# Altium footprint library HANDS-FREEE-PcbLib-V1.11.PcbLib: 211 footprints (part 12 of 14)
Each footprint in its own frame and in the unit in brackets; x right, y up, seen from the top. Pads: shape width x height; smd on the part's side, far side on the other; paste and mask are expansions set on the pad; w line width, h text height; cw(c..) or ccw(c..) is an arc to the next point about the centre after c.
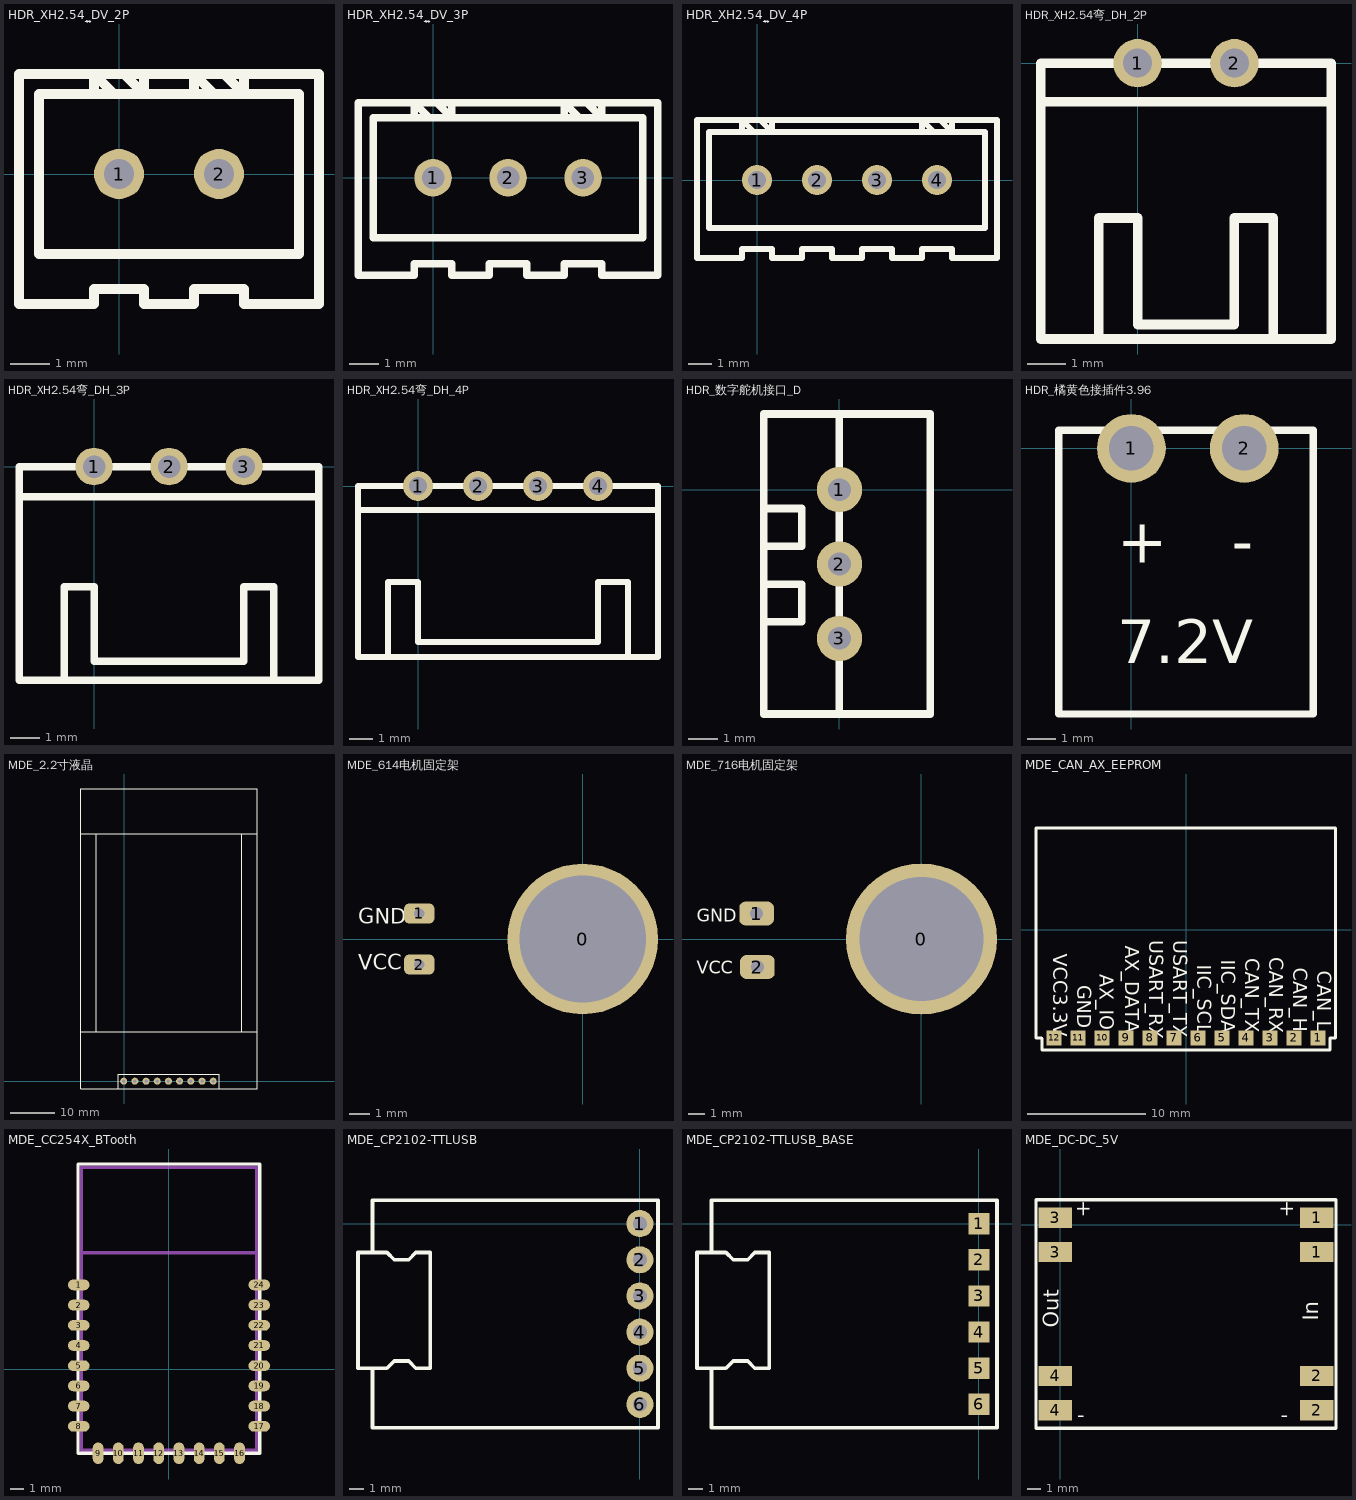
[diagram p11: the footprints below, top view; thin cyan lines are the x and y axes]

## HDR_XH2.54ֱ_DV_2P [mil]
pads (2):
  round 50 hole 30: 1(0,0) 2(100,0)
Top Overlay:
  lines w10: -5,80 -25,100 ; 5,100 25,80 ; 95,80 75,100 ; 105,100 125,80 ; 200,-110 200,-100 ; -25,80 -25,100 ; -25,80 -80,80 -80,-80 180,-80 180,80 125,80 ; -25,80 25,80 ; -25,100 -100,100 -100,0 -100,-130 -25,-130 -25,-115 25,-115 25,-130 75,-130 75,-115 125,-115 125,-130 200,-130 200,100 125,100 ; -25,100 25,100 ; 25,80 25,100 ; 25,80 75,80 ; 25,100 75,100 ; 75,80 75,100 ; 75,80 125,80 ; 75,100 125,100 ; 125,80 125,100 ; 125,80 125,100

## HDR_XH2.54ֱ_DV_3P [mil]
pads (3):
  round 50 hole 30: 1(0,0) 2(100,0) 3(200,0)
Top Overlay:
  lines w10: -5,80 -25,100 ; 5,100 25,80 ; 195,80 175,100 ; 200,100 75,100 25,100 ; 205,100 225,80 ; -25,80 25,80 ; -25,80 -80,80 -80,-80 280,-80 280,80 75,80 25,80 ; -25,80 -25,100 ; -25,100 25,100 ; -25,100 -100,100 -100,0 -100,-130 -25,-130 -25,-115 25,-115 25,-130 75,-130 75,-115 125,-115 125,-130 175,-130 175,-115 225,-115 225,-130 300,-130 300,100 225,100 ; 25,80 25,100 ; 175,100 175,80 225,80 ; 175,100 225,100 ; 225,80 225,100 ; 225,80 225,100

## HDR_XH2.54ֱ_DV_4P [mil]
pads (4):
  round 50 hole 30: 1(0,0) 2(100,0) 3(200,0) 4(300,0)
Top Overlay:
  lines w10: -5,80 -25,100 ; 5,100 25,80 ; 295,80 275,100 ; 305,100 325,80 ; -25,80 -25,100 ; -25,80 -80,80 -80,-80 380,-80 380,80 75,80 25,80 ; -25,80 25,80 ; -25,100 -100,100 -100,0 -100,-130 -25,-130 -25,-115 25,-115 25,-130 75,-130 75,-115 125,-115 125,-130 175,-130 175,-115 225,-115 225,-130 275,-130 275,-115 325,-115 325,-130 400,-130 400,100 325,100 ; -25,100 25,100 ; 25,80 25,100 ; 25,100 75,100 275,100 ; 275,100 275,80 325,80 ; 275,100 325,100 ; 325,80 325,100 ; 325,80 325,100

## HDR_XH2.54弯_DH_2P [mil]
pads (2):
  round 50 hole 30: 1(0,0) 2(100,0)
Top Overlay:
  lines w10: -100,-40 200,-40 ; -40,-285 -40,-160 0,-160 0,-270 100,-270 100,-160 130,-160 140,-160 140,-280 ; -100,-285 200,-285 200,0 -100,0 -100,-285

## HDR_XH2.54弯_DH_3P [mil]
pads (3):
  round 50 hole 30: 1(0,0) 2(100,0) 3(200,0)
Top Overlay:
  lines w10: -100,-40 300,-40 ; -40,-285 -40,-160 0,-160 0,-260 90,-260 130,-260 200,-260 200,-160 240,-160 240,-285 ; -100,-285 300,-285 300,0 -100,0 -100,-285

## HDR_XH2.54弯_DH_4P [mil]
pads (4):
  round 50 hole 30: 1(0,0) 2(100,0) 3(200,0) 4(300,0)
Top Overlay:
  lines w10: -100,-40 400,-40 ; -50,-285 -50,-160 0,-160 0,-260 300,-260 300,-160 350,-160 350,-285 ; -100,-285 -100,0 400,0 400,-285 -100,-285

## HDR_数字舵机接口_D [mil]
height 314.96
pads (3):
  round 60 hole 30: 1(0,0) 2(0,-98.43) 3(0,-196.85)
Top Overlay:
  lines w10: -100,-175 -50,-175 -50,-125 -100,-125 ; -100,-75 -50,-75 -50,-25 -100,-25 ; 0,-296.85 0,100 ; 0,-200 10,-200 ; -100,-296.85 120,-296.85 120,100 -100,100 -100,-296.85

## HDR_橘黄色接插件3.96 [mm] "7.2V接插件"
height 10
pads (2):
  round 2.4 hole 1.55: 1(0,0) 2(3.937,0)
Top Overlay:
  lines w0.254: -2.54,-9.271 -2.54,0.635 6.35,0.635 6.35,-9.271 -2.54,-9.271
  text "-" at 3.5,-4 h1.52
  text "+" at -0.5,-4 h1.52
  text "7.2V" at -0.5,-7.5 h1.52

## MDE_2.2寸液晶 [mm]
pads (9):
  round 1.6 hole 0.8: 1(-0.127,0) 2(2.413,0) 3(4.953,0) 4(7.493,0) 5(10.033,0) 6(12.573,0) 7(15.113,0) 8(17.653,0) 9(20.193,0)
Top Overlay:
  lines w0.254: -9.906,11.176 30.226,11.176 ; -9.906,56.134 30.226,56.134 ; -6.35,11.176 -6.35,56.134 ; -1.27,-1.778 -9.906,-1.778 -9.906,66.294 30.226,66.294 30.226,-1.778 21.59,-1.778 ; 26.67,11.176 26.67,53.086 26.67,56.134 ; 21.59,-1.778 -1.397,-1.778 -1.397,1.524 21.59,1.524 21.59,-1.778

## MDE_614电机固定架 [mm]
pads (3):
  round 7.5 hole 6.3: 0(0,0)
  rrect50% 1.5x1 hole 0.508: 1(-8.128,1.27) 2(-8.128,-1.27)
Top Overlay:
  text "GND" at -11.176,0.762 h0.76
  text "VCC" at -11.176,-1.524 h0.76

## MDE_716电机固定架 [mil]
pads (3):
  round 350 hole 287.4: 0(0,0)
  rrect50% 80x55 hole 30: 1(-382,59) 2(-380,-65)
Top Overlay:
  text "VCC" at -520,-80 h30
  text "GND" at -520,40 h30

## MDE_CAN_AX_EEPROM [mil]
pads (12):
  rect 50x50 smd: 1(440,-360) 2(360,-360) 3(280,-360) 4(200,-360) 5(120,-360) 6(40,-360) 7(-40,-360) 8(-120,-360) 9(-200,-360) 10(-280,-360) 11(-360,-360) 12(-440,-360)
Top Overlay:
  lines w10: -500,-361 -500,339 498,339 498,-361 481,-361 480,-360 480,-400 0,-400 -480,-400 -480,-362 -481,-361 -500,-361
  text "VCC3.3V" at -460,-79.07 h80
  text "GND" at -380,-185 h80
  text "AX_IO" at -305,-148.81 h80
  text "AX_DATA" at -220,-52.75 h80
  text "USART_RX" at -140,-34.16 h80
  text "USART_TX" at -60,-35.18 h80
  text "IIC_SCL" at 20,-117.03 h80
  text "IIC_SDA" at 100,-100 h80
  text "CAN_TX" at 180,-95.08 h80
  text "CAN_RX" at 260,-90.86 h80
  text "CAN_H" at 340,-126.01 h80
  text "CAN_L" at 420,-136.47 h80

## MDE_CC254X_BTooth [mm]
pads (24):
  oval 1.6x0.8 smd: 1(-6.7,6.25) 2(-6.7,4.75) 3(-6.7,3.25) 4(-6.7,1.75) 5(-6.7,0.25) 6(-6.7,-1.25) 7(-6.7,-2.75) 8(-6.7,-4.25) 17(6.7,-4.25) 18(6.7,-2.75) 19(6.7,-1.25) 20(6.7,0.25) 21(6.7,1.75) 22(6.7,3.25) 23(6.7,4.75) 24(6.7,6.25)
  oval 0.8x1.6 smd: 9(-5.262,-6.25) 10(-3.762,-6.25) 11(-2.262,-6.25) 12(-0.762,-6.25) 13(0.738,-6.25) 14(2.238,-6.25) 15(3.738,-6.25) 16(5.238,-6.25)
Top Overlay:
  lines w0.254: -6.756,-6.239 -6.756,15.224 6.731,15.224 6.731,-6.239 -6.756,-6.239
Mechanical 15:
  lines w0.254: -6.5,8.62 6.5,8.62 ; -6.5,-6.028 -6.5,14.97 6.5,14.97 6.5,-6.028 -6.5,-6.028

## MDE_CP2102-TTLUSB [mm]
pads (6):
  round 1.9 hole 1: 1(0,0) 2(0,-2.54) 3(0,-5.08) 4(0,-7.62) 5(0,-10.16) 6(0,-12.7)
Top Overlay:
  lines w0.254: -18.796,-10.16 -17.78,-10.16 -17.272,-9.652 -16.256,-9.652 -15.748,-10.16 -14.732,-10.16 -14.732,-6.096 -14.732,-2.032 -15.748,-2.032 -16.256,-2.54 -17.272,-2.54 -17.78,-2.032 -18.796,-2.032 ; -18.796,-10.16 -19.812,-10.16 -19.812,-2.032 -18.796,-2.032 ; -18.796,-10.16 -18.796,-14.351 1.27,-14.351 1.27,1.651 -18.796,1.651 -18.796,-2.032

## MDE_CP2102-TTLUSB_BASE [mil]
pads (6):
  rect 59x59 smd: 1(0,0) 2(0,-100) 3(0,-200) 4(0,-300) 5(0,-400) 6(0,-500)
Top Overlay:
  lines w10: -740,-400 -700,-400 -680,-380 -640,-380 -620,-400 -580,-400 -580,-240 -580,-80 -620,-80 -640,-100 -680,-100 -700,-80 -740,-80 ; -740,-400 -780,-400 -780,-80 -740,-80 ; -740,-400 -740,-565 50,-565 50,65 -740,65 -740,-80

## MDE_DC-DC_5V [mil]
pads (8):
  rect 98.43x59.06 smd: 1(745,-80) 1(745,20) 2(745,-540) 2(745,-440) 3(-15,-80) 3(-15,20) 4(-15,-540) 4(-15,-440)
Top Overlay:
  lines w10: -71,-592 801,-592 801,72 -71,72 -71,-592
  text "+" at 49,20 h45
  text "-" at 49,-575 h45
  text "-" at 640,-575 h45
  text "In" at 750,-280 h45
  text "Out" at -5,-300 h45
  text "+" at 640,20 h45